# EAGLE library part MCP4901 (library own_parts2)
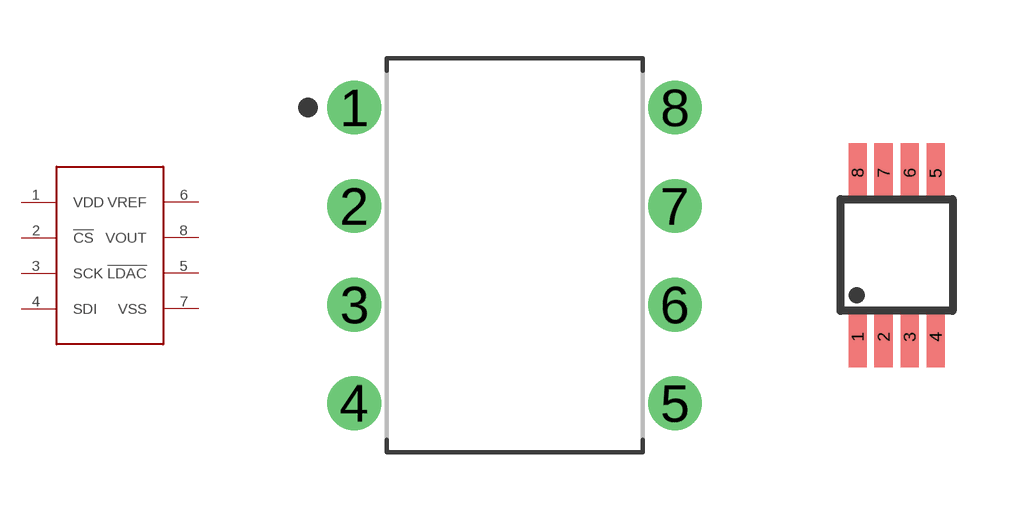
[diagram p19: symbol with the pads of DIP826W53P254L959H508Q8B; footprints DIP826W53P254L959H508Q8B, MSOP8]

Designator prefix -

## MCP4901DIP-8  [DIP826W53P254L959H508Q8B]
1  VDD
2  !CS
3  SCK
4  SDI
5  !LDAC
6  VREF
7  VSS
8  VOUT

## MCP4901MSOP-8  [MSOP8]
Pads as for DIP826W53P254L959H508Q8B

## Footprint DIP826W53P254L959H508Q8B (pad centres in mm)
8-DIP, 2.54 mm (0.10 in) pitch, 8.26 mm (0.33 in) span, 9.59 X 6.35 X 5.08 mm body 8-pin DIP package with 2.54 mm (0.10 in) pitch, 8.26 mm (0.33 in) span with body size 9.59 X 6.35 X 5.08 mm
drill 0.786 pad 1.386: 1 -4.13,3.81; 2 -4.13,1.27; 3 -4.13,-1.27; 4 -4.13,-3.81; 5 4.13,-3.81; 6 4.13,-1.27; 7 4.13,1.27; 8 4.13,3.81

## Footprint MSOP8 (pad centres in mm)
Micro Small Outline Package
smd 0.45 x 1.5: 1 -0.975,-2.05; 2 -0.325,-2.05; 3 0.325,-2.05; 4 0.975,-2.05; 5 0.975,2.05; 6 0.325,2.05; 7 -0.325,2.05; 8 -0.975,2.05